# Altium footprint library Capacitors_TH.PcbLib: 79 footprints (part 4 of 5)
Each footprint in its own frame and in the unit in brackets; x right, y up, seen from the top. Pads: shape width x height; smd on the part's side, far side on the other; paste and mask are expansions set on the pad; w line width, h text height; cw(c..) or ccw(c..) is an arc to the next point about the centre after c.
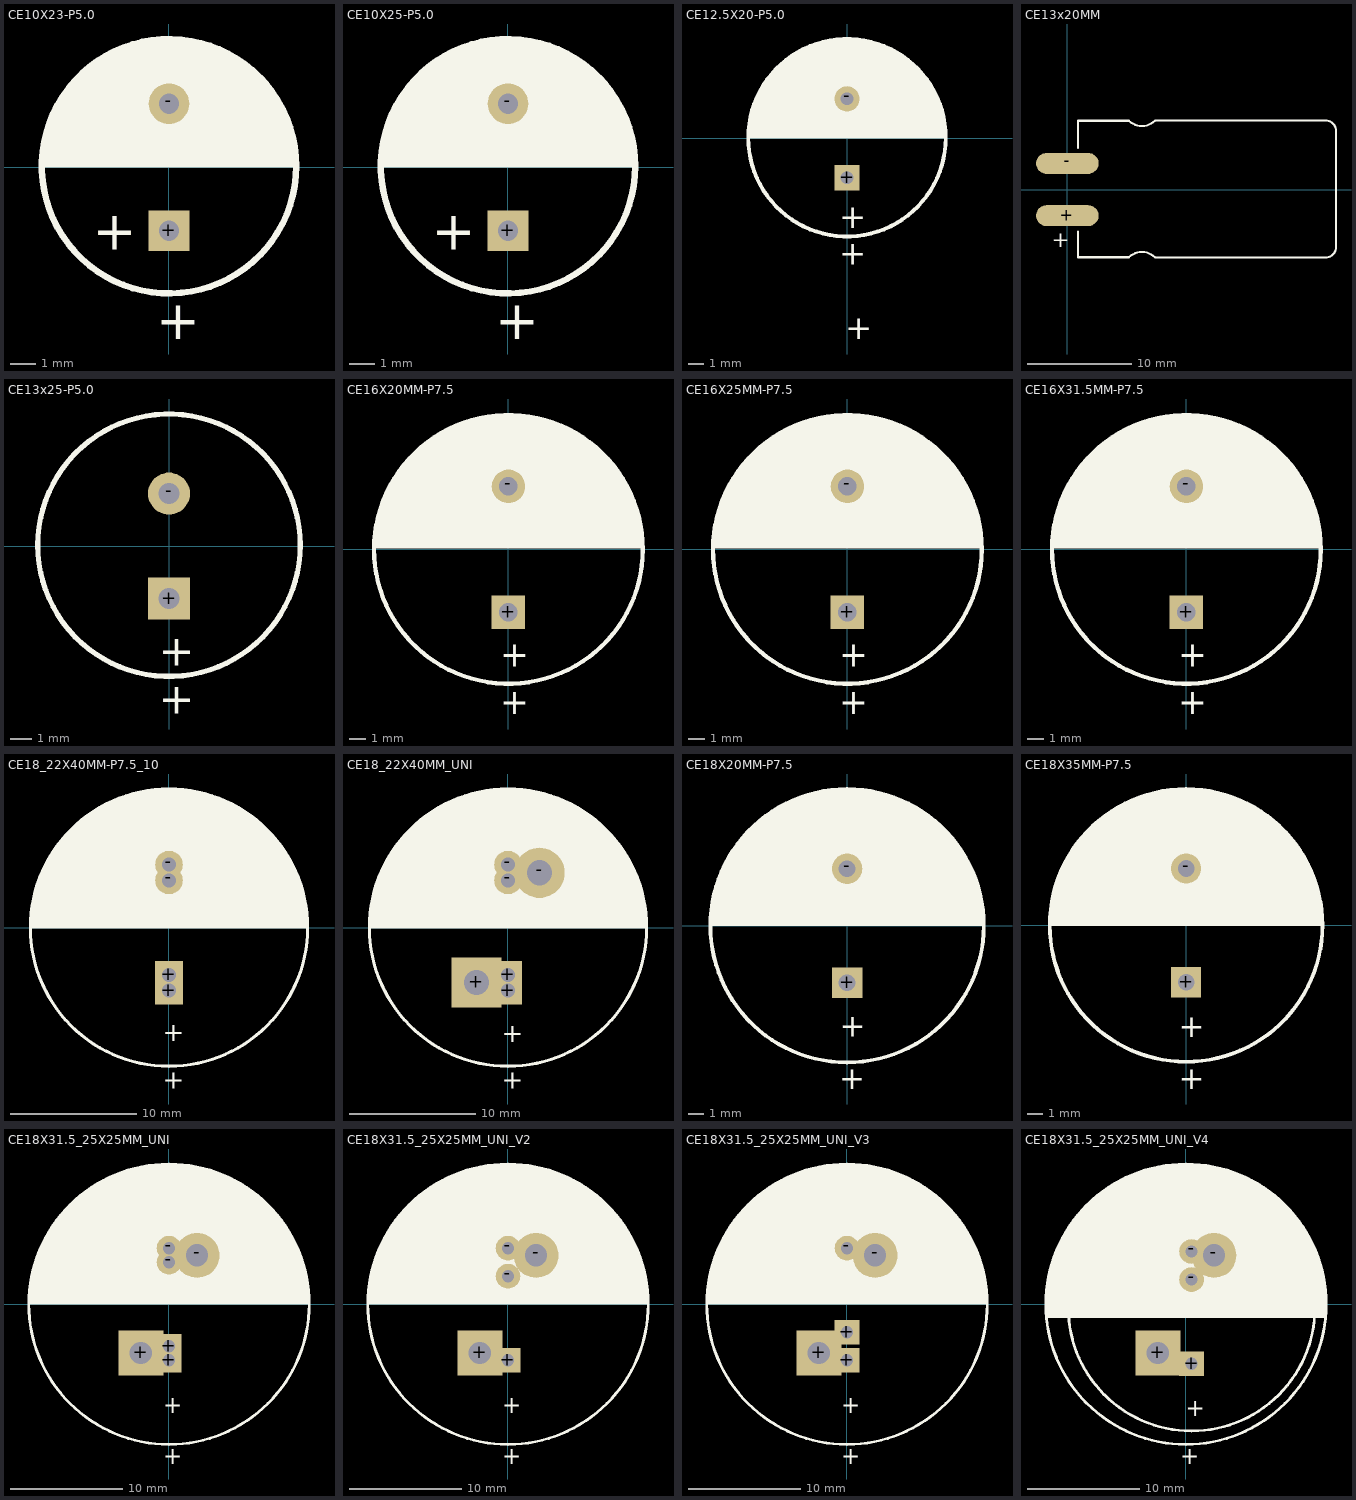
[diagram p3: the footprints below, top view; thin cyan lines are the x and y axes]

## CE10X23-P5.0 [mm]
height 13
pads (2):
  rect 1.6x1.6 hole 0.8: +(0,-2.5)
  round 1.6 hole 0.8: -(0,2.5)
Top Overlay:
  circle w0.25: c0,0.04 r5
  region: -4.999,0 4.999,0 5,-0.001 5,0.327 4.915,0.976 4.745,1.609 4.494,2.215 4.167,2.783 3.768,3.303 3.304,3.766 2.784,4.165 2.217,4.493 1.611,4.744 0.978,4.913 0.329,4.999 -0.327,4.999 -0.977,4.914 -1.61,4.744 -2.215,4.493 -2.783,4.166 -3.303,3.767 -3.766,3.303 -4.165,2.784 -4.493,2.216 -4.744,1.611 -4.914,0.977 -4.999,0.328
  text "+" at -0.5,-6.75 h1.5
  text "+" at -3,-3.25 h1.5
3D body "Aluminum_electrolytic_capacitor_radial_D10_H16_PinD0.6_Pitch5_nominal_orange.step": height 23.1, standoff 4.1, extent -5,-5 5,5
3D body "Aluminum_electrolytic_capacitor_radial_D10_H16_PinD0.6_Pitch5_nominal_orange.step": height 16.1, standoff -2.9, extent -5,-5 5,5

## CE10X25-P5.0 [mm]
height 13
pads (2):
  rect 1.6x1.6 hole 0.8: +(0,-2.5)
  round 1.6 hole 0.8: -(0,2.5)
Top Overlay:
  circle w0.25: c0,0.04 r5
  region: -4.999,0 4.999,0 5,-0.001 5,0.327 4.915,0.976 4.745,1.609 4.494,2.215 4.167,2.783 3.768,3.303 3.304,3.766 2.784,4.165 2.217,4.493 1.611,4.744 0.978,4.913 0.329,4.999 -0.327,4.999 -0.977,4.914 -1.61,4.744 -2.215,4.493 -2.783,4.166 -3.303,3.767 -3.766,3.303 -4.165,2.784 -4.493,2.216 -4.744,1.611 -4.914,0.977 -4.999,0.328
  text "+" at -0.5,-6.75 h1.5
  text "+" at -3,-3.25 h1.5
3D body "Aluminum_electrolytic_capacitor_radial_D10_H16_PinD0.6_Pitch5_nominal_orange.step": height 25.1, standoff 6.1, extent -5,-5 5,5
3D body "Aluminum_electrolytic_capacitor_radial_D10_H16_PinD0.6_Pitch5_nominal_orange.step": height 16.1, standoff -2.9, extent -5,-5 5,5

## CE12.5X20-P5.0 [mm]
height 20
pads (2):
  rect 1.6x1.6 hole 0.8: +(0,-2.5)
  round 1.6 hole 0.8: -(0,2.5)
Top Overlay:
  circle w0.25: c0,0.04 r6.25
  region: -6.231,0 6.231,0 6.231,0.35 6.152,1.045 5.996,1.728 5.765,2.388 5.462,3.019 5.089,3.611 4.653,4.158 4.158,4.653 3.611,5.089 3.019,5.462 2.388,5.765 1.728,5.996 1.045,6.152 0.35,6.231 -0.35,6.231 -1.045,6.152 -1.728,5.996 -2.388,5.765 -3.019,5.462 -3.611,5.089 -4.158,4.653 -4.653,4.158 -5.089,3.611 -5.462,3.019 -5.765,2.388 -5.996,1.728 -6.152,1.045 -6.231,0.35
  text "+" at -0.5,-8 h1.5
  text "+" at -0.1,-12.7 h1.5
  text "+" at -0.5,-5.7 h1.5
3D body "Cap-EL(12_5x20-5)T.STEP": height 20.6, standoff -3.4, extent -6.25,-6.25 6.25,6.252

## CE13x20MM [mm]
height 14
pads (2):
  oval 6x2 smd: +(0,-2.5) -(0,2.5)
Top Overlay:
  lines w0.2: 1,-4 1,-6.477 5.878,-6.477 cw(c7.127,-7.773) 8.4,-6.5 24.7,-6.5 ccw(c24.7,-5.5) 25.7,-5.5 25.7,5.6 ccw(c24.7,5.6) 24.7,6.6 8.4,6.6 cw(c7.127,7.873) 5.878,6.577 1.023,6.577 1,6.554 1,4 1,6.477
  text "+" at -1.5,-5.5 h1.5
3D body "Cap-EL(12_5x20-5)T.STEP": height 12.75, standoff 0.25, extent 1.399,-6.2 25.401,6.302

## CE13x25-P5.0 [mm] "Алюминиевый конденсатор Диаметр 13мм, высота 25мм, шаг выводов 5мм"
height 25
pads (2):
  rect 2x2 hole 1: +(0,-2.5)
  round 2 hole 1: -(0,2.5)
Top Overlay:
  circle w0.25: c0,0.04 r6.25
  text "+" at -0.5,-8 h1.5
  text "+" at -0.5,-5.7 h1.5
3D body "Cap-EL(13x25-5).STEP": height 25.1, standoff -3.2, extent -6.499,-6.5 6.499,6.502

## CE16X20MM-P7.5 [mm]
height 20
pads (2):
  rect 2x2 hole 1.1: +(0,-3.75)
  round 2 hole 1.1: -(0,3.75)
Top Overlay:
  circle w0.25: c0,0 r8
  region: -8.051,0.058 7.949,0.058 7.949,0.507 7.848,1.4 7.648,2.276 7.352,3.124 6.962,3.934 6.484,4.694 5.923,5.397 5.288,6.032 4.586,6.593 3.825,7.071 3.015,7.46 2.167,7.757 1.291,7.957 0.398,8.058 -0.5,8.058 -1.393,7.957 -2.269,7.757 -3.117,7.46 -3.927,7.071 -4.688,6.593 -5.39,6.032 -6.026,5.397 -6.586,4.694 -7.064,3.934 -7.454,3.124 -7.751,2.276 -7.95,1.4 -8.051,0.507
  text "+" at -0.5,-7 h1.5
  text "+" at -0.5,-9.8 h1.5
3D body "Cap-EL(16x20-7.5)T.STEP": height 20.6, standoff -3.4, extent -7.999,-7.95 7.999,8.052

## CE16X25MM-P7.5 [mm]
height 25
pads (2):
  rect 2x2 hole 1.1: +(0,-3.75)
  round 2 hole 1.1: -(0,3.75)
Top Overlay:
  circle w0.25: c0,0 r8
  region: -8.051,0.058 7.949,0.058 7.949,0.507 7.848,1.4 7.648,2.276 7.352,3.124 6.962,3.934 6.484,4.694 5.923,5.397 5.288,6.032 4.586,6.593 3.825,7.071 3.015,7.46 2.167,7.757 1.291,7.957 0.398,8.058 -0.5,8.058 -1.393,7.957 -2.269,7.757 -3.117,7.46 -3.927,7.071 -4.688,6.593 -5.39,6.032 -6.026,5.397 -6.586,4.694 -7.064,3.934 -7.454,3.124 -7.751,2.276 -7.95,1.4 -8.051,0.507
  text "+" at -0.5,-9.8 h1.5
  text "+" at -0.5,-7 h1.5
3D body "EC 16x25 P7.5 D0.8.STEP": height 25.1, standoff -1.7, extent -8,-8 8,8

## CE16X31.5MM-P7.5 [mm]
height 31.5
pads (2):
  rect 2x2 hole 1.1: +(0,-3.75)
  round 2 hole 1.1: -(0,3.75)
Top Overlay:
  circle w0.25: c0,0 r8
  region: -8.051,0.058 7.949,0.058 7.949,0.507 7.848,1.4 7.648,2.276 7.352,3.124 6.962,3.934 6.484,4.694 5.923,5.397 5.288,6.032 4.586,6.593 3.825,7.071 3.015,7.46 2.167,7.757 1.291,7.957 0.398,8.058 -0.5,8.058 -1.393,7.957 -2.269,7.757 -3.117,7.46 -3.927,7.071 -4.688,6.593 -5.39,6.032 -6.026,5.397 -6.586,4.694 -7.064,3.934 -7.454,3.124 -7.751,2.276 -7.95,1.4 -8.051,0.507
  text "+" at -0.5,-9.8 h1.5
  text "+" at -0.5,-7 h1.5
3D body "EC 16x31.5 P7.5 D0.8.STEP": height 31.6, standoff -1.7, extent -8,-8 8,8

## CE18_22X40MM-P7.5_10 [mm]
pads (4):
  rect 2.2x2.2 hole 1.1: +(0,-5) +(0,-3.75)
  round 2.2 hole 1.1: -(0,3.75) -(0,5)
Top Overlay:
  circle w0.25: c0,0 r11
  region: -11,-0.052 11,-0.052 11,0.428 10.916,1.385 10.75,2.331 10.501,3.259 10.172,4.161 9.766,5.032 9.286,5.864 8.735,6.651 8.118,7.386 7.439,8.066 6.703,8.683 5.916,9.234 5.084,9.714 4.214,10.12 3.311,10.449 2.383,10.697 1.437,10.864 0.48,10.948 -0.48,10.948 -1.437,10.864 -2.383,10.697 -3.311,10.449 -4.213,10.12 -5.084,9.714 -5.916,9.234 -6.703,8.683 -7.438,8.066 -8.118,7.386 -8.735,6.651 -9.286,5.864 -9.766,5.032 -10.172,4.161 -10.501,3.259 -10.749,2.331 -10.916,1.385 -11,0.428
  text "+" at -0.5,-9 h1.5
  text "+" at -0.5,-12.802 h1.5
3D body "22x40 capacitor.STEP": height 40.2, standoff -5.8, extent -11,-11.052 11,10.938

## CE18_22X40MM_UNI [mm]
pads (6):
  rect 4x4 hole 2: +(-2.5,-4.35)
  rect 2.2x2.2 hole 1.1: +(0,-5) +(0,-3.75)
  round 2.2 hole 1.1: -(0,3.75) -(0,5)
  round 4 hole 2: -(2.5,4.35)
Top Overlay:
  circle w0.25: c0,0 r11
  region: -11,-0.052 11,-0.052 11,0.428 10.916,1.385 10.75,2.331 10.501,3.259 10.172,4.161 9.766,5.032 9.286,5.864 8.735,6.651 8.118,7.386 7.439,8.066 6.703,8.683 5.916,9.234 5.084,9.714 4.214,10.12 3.311,10.449 2.383,10.697 1.437,10.864 0.48,10.948 -0.48,10.948 -1.437,10.864 -2.383,10.697 -3.311,10.449 -4.213,10.12 -5.084,9.714 -5.916,9.234 -6.703,8.683 -7.438,8.066 -8.118,7.386 -8.735,6.651 -9.286,5.864 -9.766,5.032 -10.172,4.161 -10.501,3.259 -10.749,2.331 -10.916,1.385 -11,0.428
  text "+" at -0.5,-9.1 h1.5
  text "+" at -0.5,-12.802 h1.5
3D body "22x40 capacitor.STEP": height 40.2, standoff -5.8, extent -11,-11.052 11,10.938

## CE18X20MM-P7.5 [mm]
pads (2):
  rect 2x2 hole 1.1: +(0,-3.75)
  round 2 hole 1.1: -(0,3.75)
Top Overlay:
  circle w0.25: c0,0 r9
  region: -9.012,-0.013 8.988,-0.013 8.988,0.43 8.901,1.31 8.728,2.177 8.472,3.023 8.133,3.84 7.716,4.62 7.225,5.355 6.664,6.039 6.039,6.664 5.355,7.225 4.62,7.716 3.84,8.133 3.023,8.472 2.177,8.728 1.31,8.901 0.43,8.987 -0.455,8.987 -1.335,8.901 -2.202,8.728 -3.048,8.472 -3.865,8.133 -4.645,7.716 -5.38,7.225 -6.064,6.664 -6.689,6.039 -7.25,5.355 -7.741,4.62 -8.158,3.84 -8.497,3.023 -8.753,2.177 -8.926,1.31 -9.012,0.43
  text "+" at -0.5,-7.3 h1.5
  text "+" at -0.5,-10.75 h1.5
3D body "Cap-EL(16x20-7.5)T.STEP": height 20.6, standoff -3.4, extent -7.999,-7.95 7.999,8.052

## CE18X35MM-P7.5 [mm]
height 35
pads (2):
  rect 2x2 hole 1.1: +(0,-3.75)
  round 2 hole 1.1: -(0,3.75)
Top Overlay:
  circle w0.25: c0,0 r9
  region: -9.012,-0.013 8.988,-0.013 8.988,0.43 8.901,1.31 8.728,2.177 8.472,3.023 8.133,3.84 7.716,4.62 7.225,5.355 6.664,6.039 6.039,6.664 5.355,7.225 4.62,7.716 3.84,8.133 3.023,8.472 2.177,8.728 1.31,8.901 0.43,8.987 -0.455,8.987 -1.335,8.901 -2.202,8.728 -3.048,8.472 -3.865,8.133 -4.645,7.716 -5.38,7.225 -6.064,6.664 -6.689,6.039 -7.25,5.355 -7.741,4.62 -8.158,3.84 -8.497,3.023 -8.753,2.177 -8.926,1.31 -9.012,0.43
  text "+" at -0.5,-10.8 h1.5
  text "+" at -0.5,-7.4 h1.5
3D body: height 35, standoff 0, extent -9,-8.95 9,9.05

## CE18Х31.5_25X25MM_UNI [mm]
height 31.5
pads (6):
  rect 4x4 hole 2: +(-2.5,-4.35)
  rect 2.2x2.2 hole 1.1: +(0,-5) +(0,-3.75)
  round 2.2 hole 1.1: -(0,3.75) -(0,5)
  round 4 hole 2: -(2.5,4.35)
Top Overlay:
  circle w0.25: c0,0 r12.5
  region: -12.448,0 12.5,0 12.502,0.491 12.429,1.469 12.279,2.439 12.053,3.394 11.753,4.329 11.379,5.236 10.935,6.111 10.423,6.949 9.847,7.743 9.21,8.49 8.516,9.184 7.77,9.821 6.975,10.397 6.138,10.909 5.262,11.353 4.355,11.726 3.421,12.027 2.466,12.253 1.496,12.403 0.517,12.476 0.026,12.474 -0.466,12.481 -1.447,12.415 -2.421,12.272 -3.379,12.051 -4.318,11.755 -5.229,11.384 -6.108,10.942 -6.949,10.432 -7.747,9.855 -8.496,9.218 -9.191,8.522 -9.829,7.773 -10.405,6.975 -10.916,6.134 -11.358,5.255 -11.728,4.344 -12.025,3.406 -12.246,2.447 -12.389,1.474 -12.454,0.492
  text "+" at -0.5,-9.7 h1.5
  text "+" at -0.5,-14.247 h1.5
3D body: height 31.5, standoff 0, extent -11,-11 11,11
3D body: height 25, standoff 0, extent -12.5,-12.497 12.5,12.497

## CE18Х31.5_25X25MM_UNI_V2 [mm]
height 31.5
pads (5):
  rect 4x4 hole 2: +(-2.5,-4.35)
  rect 2.2x2.2 hole 1.1: +(0,-5)
  round 2.2 hole 1.1: -(0,2.5) -(0,5)
  round 4 hole 2: -(2.5,4.35)
Top Overlay:
  circle w0.25: c0,0 r12.5
  region: -12.448,0 12.5,0 12.502,0.491 12.429,1.469 12.279,2.439 12.053,3.394 11.753,4.329 11.379,5.236 10.935,6.111 10.423,6.949 9.847,7.743 9.21,8.49 8.516,9.184 7.77,9.821 6.975,10.397 6.138,10.909 5.262,11.353 4.355,11.726 3.421,12.027 2.466,12.253 1.496,12.403 0.517,12.476 0.026,12.474 -0.466,12.481 -1.447,12.415 -2.421,12.272 -3.379,12.051 -4.318,11.755 -5.229,11.384 -6.108,10.942 -6.949,10.432 -7.747,9.855 -8.496,9.218 -9.191,8.522 -9.829,7.773 -10.405,6.975 -10.916,6.134 -11.358,5.255 -11.728,4.344 -12.025,3.406 -12.246,2.447 -12.389,1.474 -12.454,0.492
  text "+" at -0.5,-9.7 h1.5
  text "+" at -0.5,-14.247 h1.5
3D body: height 25, standoff 0, extent -12.5,-12.497 12.5,12.497
3D body: height 31.5, standoff 0, extent -11,-11 11,11
3D body: height 35, standoff 0, extent -9,-9 9,9

## CE18Х31.5_25X25MM_UNI_V3 [mm]
height 31.5
pads (5):
  rect 4x4 hole 2: +(-2.5,-4.35)
  rect 2.2x2.2 hole 1.1: +(0,-5) +(0,-2.5)
  round 2.2 hole 1.1: -(0,5)
  round 4 hole 2: -(2.5,4.35)
Top Overlay:
  circle w0.25: c0,0 r12.5
  region: -12.448,0 12.5,0 12.502,0.491 12.429,1.469 12.279,2.439 12.053,3.394 11.753,4.329 11.379,5.236 10.935,6.111 10.423,6.949 9.847,7.743 9.21,8.49 8.516,9.184 7.77,9.821 6.975,10.397 6.138,10.909 5.262,11.353 4.355,11.726 3.421,12.027 2.466,12.253 1.496,12.403 0.517,12.476 0.026,12.474 -0.466,12.481 -1.447,12.415 -2.421,12.272 -3.379,12.051 -4.318,11.755 -5.229,11.384 -6.108,10.942 -6.949,10.432 -7.747,9.855 -8.496,9.218 -9.191,8.522 -9.829,7.773 -10.405,6.975 -10.916,6.134 -11.358,5.255 -11.728,4.344 -12.025,3.406 -12.246,2.447 -12.389,1.474 -12.454,0.492
  text "+" at -0.5,-9.7 h1.5
  text "+" at -0.5,-14.247 h1.5
3D body: height 25, standoff 0, extent -12.5,-12.497 12.5,12.497
3D body: height 31.5, standoff 0, extent -11,-11 11,11

## CE18Х31.5_25X25MM_UNI_V4 [mm]
height 35
pads (5):
  rect 4x4 hole 2: +(-2.5,-4.35)
  rect 2.2x2.2 hole 1.1: +(0.5,-5.3)
  round 2.2 hole 1.1: -(0.5,2.2) -(0.5,4.7)
  round 4 hole 2: -(2.5,4.35)
Top Layer:
  rectangle: -0.4,2.6 2.4,4.8
Bottom Layer:
  rectangle: -0.4,2.6 2.4,4.8
Top Overlay:
  circle w0.25: c0,0 r12.5
  circle w0.25: c0.5,-0.3 r11
  region: -12.373,-1.2 12.437,-1.2 12.489,-0.682 12.508,0.36 12.438,1.399 12.283,2.429 12.041,3.442 11.716,4.432 11.308,5.39 10.822,6.312 10.261,7.189 9.628,8.016 8.928,8.787 8.166,9.497 7.347,10.141 6.477,10.714 5.562,11.212 4.608,11.632 3.623,11.97 2.613,12.225 1.585,12.394 0.547,12.476 0.026,12.474 -0.496,12.481 -1.537,12.407 -2.569,12.244 -3.583,11.995 -4.572,11.661 -5.529,11.245 -6.448,10.748 -7.321,10.176 -8.143,9.532 -8.907,8.821 -9.609,8.047 -10.242,7.217 -10.803,6.337 -11.287,5.412 -11.691,4.449 -12.013,3.455 -12.248,2.438 -12.397,1.405 -12.458,0.363 -12.431,-0.681
  text "+" at 0,-10 h1.5
  text "+" at -0.5,-14.247 h1.5
3D body: height 25, standoff 0, extent -12.5,-12.497 12.5,12.497
3D body: height 31.5, standoff 0, extent -10.5,-11.3 11.5,10.7
3D body: height 35, standoff 0, extent -8.5,-10.55 9.5,7.45